# EAGLE library part PCM4104 (library BurrBrownAudioParts)
PCM4104: High-Performance 118dB, 24-Bit, 216kHz Sampling, Four-Channel Audio D/A Converter
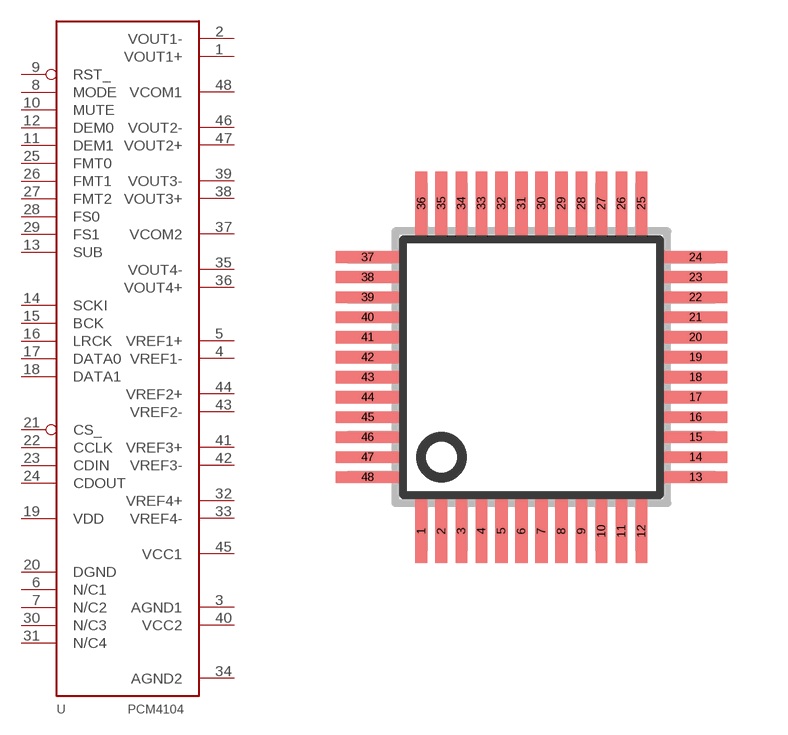
[diagram p2: symbol with the pads of SQFP-S-7X7-48; footprint SQFP-S-7X7-48]

Designator prefix -

## PCM4104  [SQFP-S-7X7-48]
1  VOUT1+  out
2  VOUT1-  out
3  AGND1
4  VREF1-  in
5  VREF1+  in
6  N/C1
7  N/C2
8  MODE  in
9  RST_  in
10  MUTE  in
11  DEM1  in
12  DEM0  in
13  SUB  in
14  SCKI  in
15  BCK  in
16  LRCK  in
17  DATA0  in
18  DATA1  in
19  VDD  pwr
20  DGND
21  CS_  in
22  CCLK  in
23  CDIN  in
24  CDOUT  out
25  FMT0  in
26  FMT1  in
27  FMT2  in
28  FS0  in
29  FS1  in
30  N/C3
31  N/C4
32  VREF4+  in
33  VREF4-  in
34  AGND2
35  VOUT4-  out
36  VOUT4+  out
37  VCOM2  out
38  VOUT3+  out
39  VOUT3-  out
40  VCC2
41  VREF3+
42  VREF3-
43  VREF2-
44  VREF2+
45  VCC1
46  VOUT2-  out
47  VOUT2+  out
48  VCOM1  out

## Footprint SQFP-S-7X7-48 (pad centres in mm)
QFP48 shrink quad flat pack, square
smd 0.3 x 1.6: 1 -2.75,-4.1; 2 -2.25,-4.1; 3 -1.75,-4.1; 4 -1.25,-4.1; 5 -0.75,-4.1; 6 -0.25,-4.1; 7 0.25,-4.1; 8 0.75,-4.1; 9 1.25,-4.1; 10 1.75,-4.1; 11 2.25,-4.1; 12 2.75,-4.1; 25 2.75,4.1; 26 2.25,4.1; 27 1.75,4.1; 28 1.25,4.1; 29 0.75,4.1; 30 0.25,4.1; 31 -0.25,4.1; 32 -0.75,4.1; 33 -1.25,4.1; 34 -1.75,4.1; 35 -2.25,4.1; 36 -2.75,4.1
smd 1.6 x 0.3: 13 4.1,-2.75; 14 4.1,-2.25; 15 4.1,-1.75; 16 4.1,-1.25; 17 4.1,-0.75; 18 4.1,-0.25; 19 4.1,0.25; 20 4.1,0.75; 21 4.1,1.25; 22 4.1,1.75; 23 4.1,2.25; 24 4.1,2.75; 37 -4.1,2.75; 38 -4.1,2.25; 39 -4.1,1.75; 40 -4.1,1.25; 41 -4.1,0.75; 42 -4.1,0.25; 43 -4.1,-0.25; 44 -4.1,-0.75; 45 -4.1,-1.25; 46 -4.1,-1.75; 47 -4.1,-2.25; 48 -4.1,-2.75